# Altium footprint library WE-VD.PcbLib: 60 footprints (part 1 of 4)
Each footprint in its own frame and in the unit in brackets; x right, y up, seen from the top. Pads: shape width x height; smd on the part's side, far side on the other; paste and mask are expansions set on the pad; w line width, h text height; cw(c..) or ccw(c..) is an arc to the next point about the centre after c.
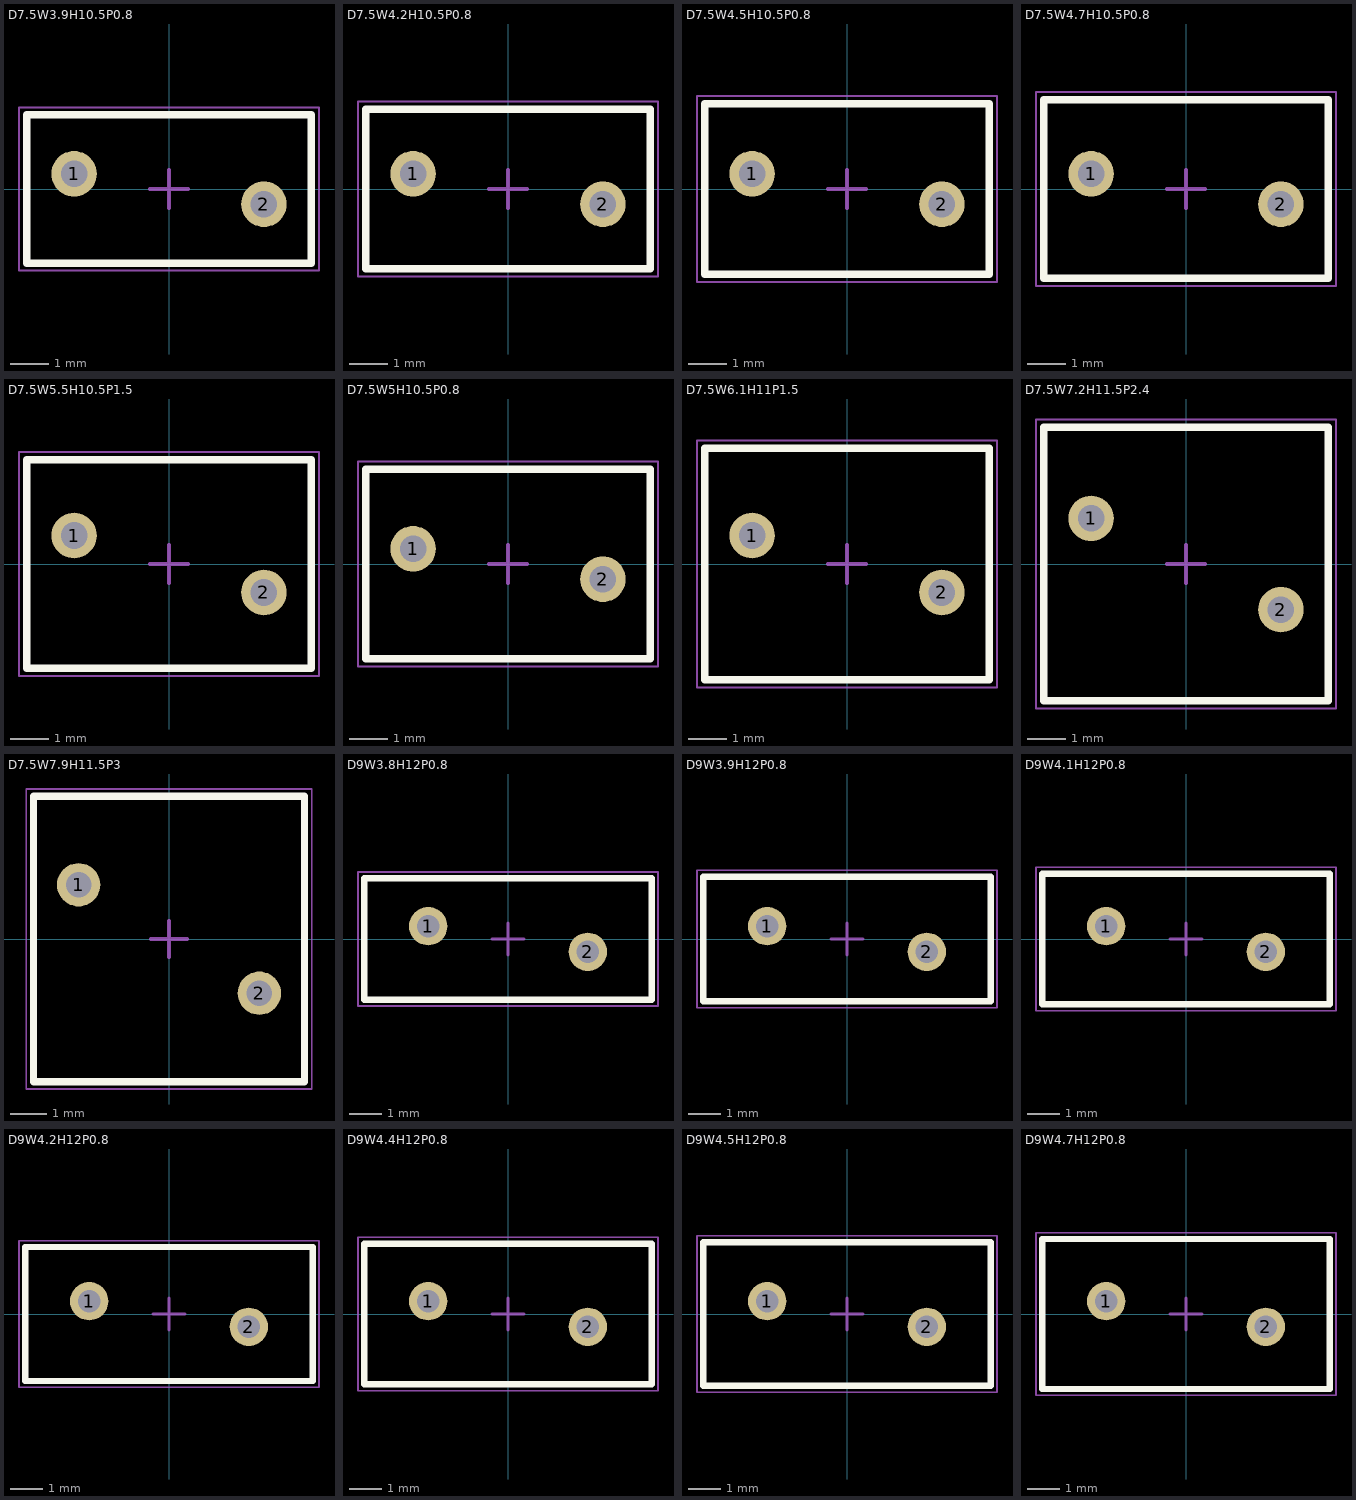
[diagram p0: the footprints below, top view; thin cyan lines are the x and y axes]

## D7.5W3.9H10.5P0.8 [mm] "Disk Varistor, Diameter 7.5mm, Width 3.9mm"
height 10.5
pads (2):
  round 1.2 hole 0.7: 1(-2.5,0.4) 2(2.5,-0.4)
Top Overlay:
  lines w0.2: -3.75,-1.95 3.75,-1.95 3.75,1.95 -3.75,1.95 -3.75,-1.95
Top Assembly:
  lines w0.1: -3.75,-1.95 -3.75,1.95 3.75,1.95 3.75,-1.95 -3.75,-1.95
Top Designator:
  text ".Designator" at -3.647,-0.357 h1
Top Courtyard:
  lines w0.05: -3.95,-2.15 3.95,-2.15 3.95,2.15 -3.95,2.15 -3.95,-2.15
Top Component Center:
  lines w0.1: -0.5,0 0.5,0 ; 0,-0.5 0,0.5
3D body "820556001.stp": height 8.14, standoff -22.85, extent -2.997,-1.45 2.998,1.45

## D7.5W4.2H10.5P0.8 [mm] "Disk Varistor, Diameter 7.5mm, Width 4.2mm"
height 10.5
pads (2):
  round 1.2 hole 0.7: 1(-2.5,0.4) 2(2.5,-0.4)
Top Overlay:
  lines w0.2: -3.75,-2.1 -3.75,2.1 3.75,2.1 3.75,-2.1 -3.75,-2.1
Top Assembly:
  lines w0.1: -3.75,-2.1 3.75,-2.1 3.75,2.1 -3.75,2.1 -3.75,-2.1
Top Designator:
  text ".Designator" at -3.647,-0.357 h1
Top Courtyard:
  lines w0.05: -3.95,-2.3 -3.95,2.3 3.95,2.3 3.95,-2.3 -3.95,-2.3
Top Component Center:
  lines w0.1: -0.5,0 0.5,0 ; 0,-0.5 0,0.5
3D body "820551311.stp": height 8.14, standoff -22.85, extent -2.993,-1.65 2.993,1.65

## D7.5W4.5H10.5P0.8 [mm] "Disk Varistor, Diameter 7.5mm, Width 4.5mm"
height 10.5
pads (2):
  round 1.2 hole 0.7: 1(-2.5,0.4) 2(2.5,-0.4)
Top Overlay:
  lines w0.2: -3.75,-2.25 -3.75,2.25 3.75,2.25 3.75,-2.25 -3.75,-2.25
Top Assembly:
  lines w0.1: -3.75,-2.25 3.75,-2.25 3.75,2.25 -3.75,2.25 -3.75,-2.25
Top Designator:
  text ".Designator" at -3.647,-0.357 h1
Top Courtyard:
  lines w0.05: -3.95,-2.45 -3.95,2.45 3.95,2.45 3.95,-2.45 -3.95,-2.45
Top Component Center:
  lines w0.1: -0.5,0 0.5,0 ; 0,-0.5 0,0.5
3D body "820551406.stp": height 8.13, standoff -22.85, extent -2.994,-1.55 2.994,1.55

## D7.5W4.7H10.5P0.8 [mm] "Disk Varistor, Diameter 7.5mm, Width 4.7mm"
height 10.5
pads (2):
  round 1.2 hole 0.7: 1(-2.5,0.4) 2(2.5,-0.4)
Top Overlay:
  lines w0.2: -3.75,-2.35 -3.75,2.35 3.75,2.35 3.75,-2.35 -3.75,-2.35
Top Assembly:
  lines w0.1: -3.75,-2.35 3.75,-2.35 3.75,2.35 -3.75,2.35 -3.75,-2.35
Top Designator:
  text ".Designator" at -3.647,-0.357 h1
Top Courtyard:
  lines w0.05: -3.95,-2.55 -3.95,2.55 3.95,2.55 3.95,-2.55 -3.95,-2.55
Top Component Center:
  lines w0.1: -0.5,0 0.5,0 ; 0,-0.5 0,0.5
3D body "820452001.stp": height 8.13, standoff -22.85, extent -2.994,-1.55 2.994,1.55

## D7.5W5.5H10.5P1.5 [mm] "Disk Varistor, Diameter 7.5mm, Width 5.5mm"
height 10.5
pads (2):
  round 1.2 hole 0.7: 1(-2.5,0.75) 2(2.5,-0.75)
Top Overlay:
  lines w0.2: -3.75,-2.75 3.75,-2.75 3.75,2.75 -3.75,2.75 -3.75,-2.75
Top Assembly:
  lines w0.1: -3.75,-2.75 -3.75,2.75 3.75,2.75 3.75,-2.75 -3.75,-2.75
Top Designator:
  text ".Designator" at -3.647,-0.357 h1
Top Courtyard:
  lines w0.05: -3.95,-2.95 3.95,-2.95 3.95,2.95 -3.95,2.95 -3.95,-2.95
Top Component Center:
  lines w0.1: -0.5,0 0.5,0 ; 0,-0.5 0,0.5
3D body "820554001.stp": height 8.15, standoff -22.85, extent -3,-1.85 3,1.85

## D7.5W5H10.5P0.8 [mm] "Disk Varistor, Diameter 7.5mm, Width 5mm"
height 10.5
pads (2):
  round 1.2 hole 0.7: 1(-2.5,0.4) 2(2.5,-0.4)
Top Overlay:
  lines w0.2: -3.75,-2.5 3.75,-2.5 3.75,2.5 -3.75,2.5 -3.75,-2.5
Top Assembly:
  lines w0.1: -3.75,-2.5 -3.75,2.5 3.75,2.5 3.75,-2.5 -3.75,-2.5
Top Designator:
  text ".Designator" at -3.647,-0.357 h1
Top Courtyard:
  lines w0.05: -3.95,-2.7 3.95,-2.7 3.95,2.7 -3.95,2.7 -3.95,-2.7
Top Component Center:
  lines w0.1: -0.5,0 0.5,0 ; 0,-0.5 0,0.5
3D body "820453001.stp": height 8.15, standoff -22.85, extent -3,-1.75 3,1.75

## D7.5W6.1H11P1.5 [mm] "Disk Varistor, Diameter 7.5mm, Width 6.1mm"
height 11
pads (2):
  round 1.2 hole 0.7: 1(-2.5,0.75) 2(2.5,-0.75)
Top Overlay:
  lines w0.2: -3.75,-3.05 3.75,-3.05 3.75,3.05 -3.75,3.05 -3.75,-3.05
Top Assembly:
  lines w0.1: -3.75,-3.05 -3.75,3.05 3.75,3.05 3.75,-3.05 -3.75,-3.05
Top Designator:
  text ".Designator" at -3.647,-0.357 h1
Top Courtyard:
  lines w0.05: -3.95,-3.25 3.95,-3.25 3.95,3.25 -3.95,3.25 -3.95,-3.25
Top Component Center:
  lines w0.1: -0.5,0 0.5,0 ; 0,-0.5 0,0.5
3D body "820552711.stp": height 8.15, standoff -22.85, extent -3,-1.9 3,1.9

## D7.5W7.2H11.5P2.4 [mm] "Disk Varistor, Diameter 7.5mm, Width 7.2mm"
height 11.5
pads (2):
  round 1.2 hole 0.7: 1(-2.5,1.2) 2(2.5,-1.2)
Top Overlay:
  lines w0.2: -3.75,-3.6 -3.75,3.6 3.75,3.6 3.75,-3.6 -3.75,-3.6
Top Assembly:
  lines w0.1: -3.75,-3.6 3.75,-3.6 3.75,3.6 -3.75,3.6 -3.75,-3.6
Top Designator:
  text ".Designator" at -3.647,-0.357 h1
Top Courtyard:
  lines w0.05: -3.95,-3.8 -3.95,3.8 3.95,3.8 3.95,-3.8 -3.95,-3.8
Top Component Center:
  lines w0.1: -0.5,0 0.5,0 ; 0,-0.5 0,0.5
3D body "820453811.stp": height 8.15, standoff -22.85, extent -3,-2.35 3,2.35

## D7.5W7.9H11.5P3 [mm] "Disk Varistor, Diameter 7.5mm, Width 7.9mm"
height 11.5
pads (2):
  round 1.2 hole 0.7: 1(-2.5,1.5) 2(2.5,-1.5)
Top Overlay:
  lines w0.2: -3.75,-3.95 3.75,-3.95 3.75,3.95 -3.75,3.95 -3.75,-3.95
Top Assembly:
  lines w0.1: -3.75,-3.95 -3.75,3.95 3.75,3.95 3.75,-3.95 -3.75,-3.95
Top Designator:
  text ".Designator" at -3.647,-0.357 h1
Top Courtyard:
  lines w0.05: -3.95,-4.15 3.95,-4.15 3.95,4.15 -3.95,4.15 -3.95,-4.15
Top Component Center:
  lines w0.1: -0.5,0 0.5,0 ; 0,-0.5 0,0.5
3D body "820554611.stp": height 8.15, standoff -22.85, extent -3,-2.65 3,2.65

## D9W3.8H12P0.8 [mm] "Disk Varistor, Diameter 9mm, Width 3.8mm"
height 12
pads (2):
  round 1.2 hole 0.7: 1(-2.5,0.4) 2(2.5,-0.4)
Top Overlay:
  lines w0.2: -4.5,-1.9 4.5,-1.9 4.5,1.9 -4.5,1.9 -4.5,-1.9
Top Assembly:
  lines w0.1: -4.5,-1.9 -4.5,1.9 4.5,1.9 4.5,-1.9 -4.5,-1.9
Top Designator:
  text ".Designator" at -3.647,-0.357 h1
Top Courtyard:
  lines w0.05: -4.7,-2.1 4.7,-2.1 4.7,2.1 -4.7,2.1 -4.7,-2.1
Top Component Center:
  lines w0.1: -0.5,0 0.5,0 ; 0,-0.5 0,0.5
3D body "820x75001.stp": height 9.7, standoff -22.7, extent -3.698,-1.25 3.696,1.25

## D9W3.9H12P0.8 [mm] "Disk Varistor, Diameter 9mm, Width 3.9mm"
height 12
pads (2):
  round 1.2 hole 0.7: 1(-2.5,0.4) 2(2.5,-0.4)
Top Overlay:
  lines w0.2: -4.5,-1.95 4.5,-1.95 4.5,1.95 -4.5,1.95 -4.5,-1.95
Top Assembly:
  lines w0.1: -4.5,-1.95 -4.5,1.95 4.5,1.95 4.5,-1.95 -4.5,-1.95
Top Designator:
  text ".Designator" at -3.647,-0.357 h1
Top Courtyard:
  lines w0.05: -4.7,-2.15 4.7,-2.15 4.7,2.15 -4.7,2.15 -4.7,-2.15
Top Component Center:
  lines w0.1: -0.5,0 0.5,0 ; 0,-0.5 0,0.5
3D body "820x76001.stp": height 9.7, standoff -22.7, extent -3.698,-1.25 3.696,1.25

## D9W4.1H12P0.8 [mm] "Disk Varistor, Diameter 9mm, Width 4.1mm"
height 12
pads (2):
  round 1.2 hole 0.7: 1(-2.5,0.4) 2(2.5,-0.4)
Top Overlay:
  lines w0.2: -4.5,-2.05 4.5,-2.05 4.5,2.05 -4.5,2.05 -4.5,-2.05
Top Assembly:
  lines w0.1: -4.5,-2.05 -4.5,2.05 4.5,2.05 4.5,-2.05 -4.5,-2.05
Top Designator:
  text ".Designator" at -3.647,-0.357 h1
Top Courtyard:
  lines w0.05: -4.7,-2.25 4.7,-2.25 4.7,2.25 -4.7,2.25 -4.7,-2.25
Top Component Center:
  lines w0.1: -0.5,0 0.5,0 ; 0,-0.5 0,0.5
3D body "820x71111.stp": height 9.7, standoff -22.7, extent -3.698,-1.25 3.696,1.25

## D9W4.2H12P0.8 [mm] "Disk Varistor, Diameter 9mm, Width 4.2mm"
height 12
pads (2):
  round 1.2 hole 0.7: 1(-2.5,0.4) 2(2.5,-0.4)
Top Overlay:
  lines w0.2: -4.5,-2.1 -4.5,2.1 4.5,2.1 4.5,-2.1 -4.5,-2.1
Top Assembly:
  lines w0.1: -4.5,-2.1 4.5,-2.1 4.5,2.1 -4.5,2.1 -4.5,-2.1
Top Designator:
  text ".Designator" at -3.647,-0.357 h1
Top Courtyard:
  lines w0.05: -4.7,-2.3 -4.7,2.3 4.7,2.3 4.7,-2.3 -4.7,-2.3
Top Component Center:
  lines w0.1: -0.5,0 0.5,0 ; 0,-0.5 0,0.5
3D body "820x71311.stp": height 9.7, standoff -22.7, extent -3.696,-1.4 3.696,1.4

## D9W4.4H12P0.8 [mm] "Disk Varistor, Diameter 9mm, Width 4.4mm"
height 12
pads (2):
  round 1.2 hole 0.7: 1(-2.5,0.4) 2(2.5,-0.4)
Top Overlay:
  lines w0.2: -4.5,-2.2 -4.5,2.2 4.5,2.2 4.5,-2.2 -4.5,-2.2
Top Assembly:
  lines w0.1: -4.5,-2.2 4.5,-2.2 4.5,2.2 -4.5,2.2 -4.5,-2.2
Top Designator:
  text ".Designator" at -3.647,-0.357 h1
Top Courtyard:
  lines w0.05: -4.7,-2.4 -4.7,2.4 4.7,2.4 4.7,-2.4 -4.7,-2.4
Top Component Center:
  lines w0.1: -0.5,0 0.5,0 ; 0,-0.5 0,0.5
3D body "820x71511.stp": height 9.7, standoff -22.7, extent -3.696,-1.5 3.696,1.5

## D9W4.5H12P0.8 [mm] "Disk Varistor, Diameter 9mm, Width 4.5mm"
height 12
pads (2):
  round 1.2 hole 0.7: 1(-2.5,0.4) 2(2.5,-0.4)
Top Overlay:
  lines w0.2: -4.5,-2.25 -4.5,2.25 4.5,2.25 4.5,-2.25 -4.5,-2.25
Top Assembly:
  lines w0.1: -4.5,-2.25 4.5,-2.25 4.5,2.25 -4.5,2.25 -4.5,-2.25
Top Designator:
  text ".Designator" at -3.647,-0.357 h1
Top Courtyard:
  lines w0.05: -4.7,-2.45 -4.7,2.45 4.7,2.45 4.7,-2.45 -4.7,-2.45
Top Component Center:
  lines w0.1: -0.5,0 0.5,0 ; 0,-0.5 0,0.5
3D body "820x71406.stp": height 9.7, standoff -22.7, extent -3.7,-1.6 3.7,1.6

## D9W4.7H12P0.8 [mm] "Disk Varistor, Diameter 9mm, Width 4.7mm"
height 12
pads (2):
  round 1.2 hole 0.7: 1(-2.5,0.4) 2(2.5,-0.4)
Top Overlay:
  lines w0.2: -4.5,-2.35 4.5,-2.35 4.5,2.35 -4.5,2.35 -4.5,-2.35
Top Assembly:
  lines w0.1: -4.5,-2.35 -4.5,2.35 4.5,2.35 4.5,-2.35 -4.5,-2.35
Top Designator:
  text ".Designator" at -3.647,-0.357 h1
Top Courtyard:
  lines w0.05: -4.7,-2.55 4.7,-2.55 4.7,2.55 -4.7,2.55 -4.7,-2.55
Top Component Center:
  lines w0.1: -0.5,0 0.5,0 ; 0,-0.5 0,0.5
3D body "820x72501.stp": height 9.7, standoff -22.7, extent -3.696,-1.5 3.696,1.5